# EAGLE library part RJMG2310228A0ER (library CONNECTORs)
1 Port RJ45 with USB A, Dual Magjack Connector Through Hole 10/100/1000 Base-T, AutoMDIX
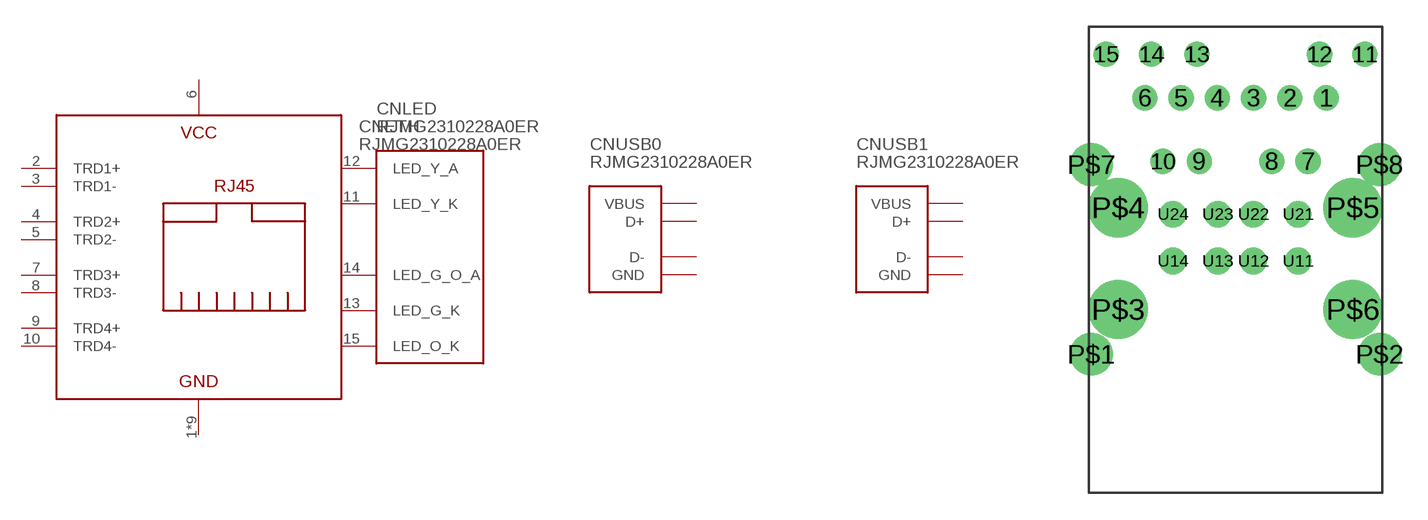
[diagram p48: symbol with the pads of RJMG2310228A0ER; footprint RJMG2310228A0ER]

Designator prefix CN; gates ETH=ETHERNET LED=ETHERNET_LED USB0=USB USB1=USB

## RJMG2310228A0ER (DIGIKEY: RJMG2310228A0ER-ND; HEIGHT: 30; PRICE_PER: 3.74; VALUE: RJ45 2xUSB)  [RJMG2310228A0ER]
1  ETH:GND
2  ETH:TRD1+
3  ETH:TRD1-
4  ETH:TRD2+
5  ETH:TRD2-
6  ETH:VCC
7  ETH:TRD3+
8  ETH:TRD3-
9  ETH:TRD4+
10  ETH:TRD4-
11  LED:LED_Y_K
12  LED:LED_Y_A
13  LED:LED_G_K
14  LED:LED_G_O_A
15  LED:LED_O_K
P$1  ETH:GND
P$2  ETH:GND
P$3  ETH:GND
P$4  ETH:GND
P$5  ETH:GND
P$6  ETH:GND
P$7  ETH:GND
P$8  ETH:GND
U11  USB0:GND
U12  USB0:D+
U13  USB0:D-
U14  USB0:VBUS
U21  USB1:GND
U22  USB1:D+
U23  USB1:D-
U24  USB1:VBUS

## Footprint RJMG2310228A0ER (pad centres in mm)
drill 0.9: 1 5.075,14.35; 2 3.045,14.35; 3 1.015,14.35; 4 -1.015,14.35; 5 -3.045,14.35; 6 -5.075,14.35; 7 4.06,10.8; 8 2.03,10.8; 9 -2.03,10.8; 10 -4.06,10.8; 11 7.24,16.8; 12 4.7,16.8; 13 -2.16,16.8; 14 -4.7,16.8; 15 -7.24,16.8
drill 1.6: P$1 -8.065,0; P$2 8.065,0; P$7 -8.065,10.62; P$8 8.065,10.62
drill 2.3: P$3 -6.565,2.5; P$4 -6.565,8.2; P$5 6.565,8.2; P$6 6.565,2.5
drill 1: U11 3.5,5.21; U12 1,5.21; U13 -1,5.21; U14 -3.5,5.21; U21 3.5,7.83; U22 1,7.83; U23 -1,7.83; U24 -3.5,7.83